# Altium integrated library Analog Devices Interface and Isolation Level Translators.IntLib: 67 symbols (part 3 of 3)
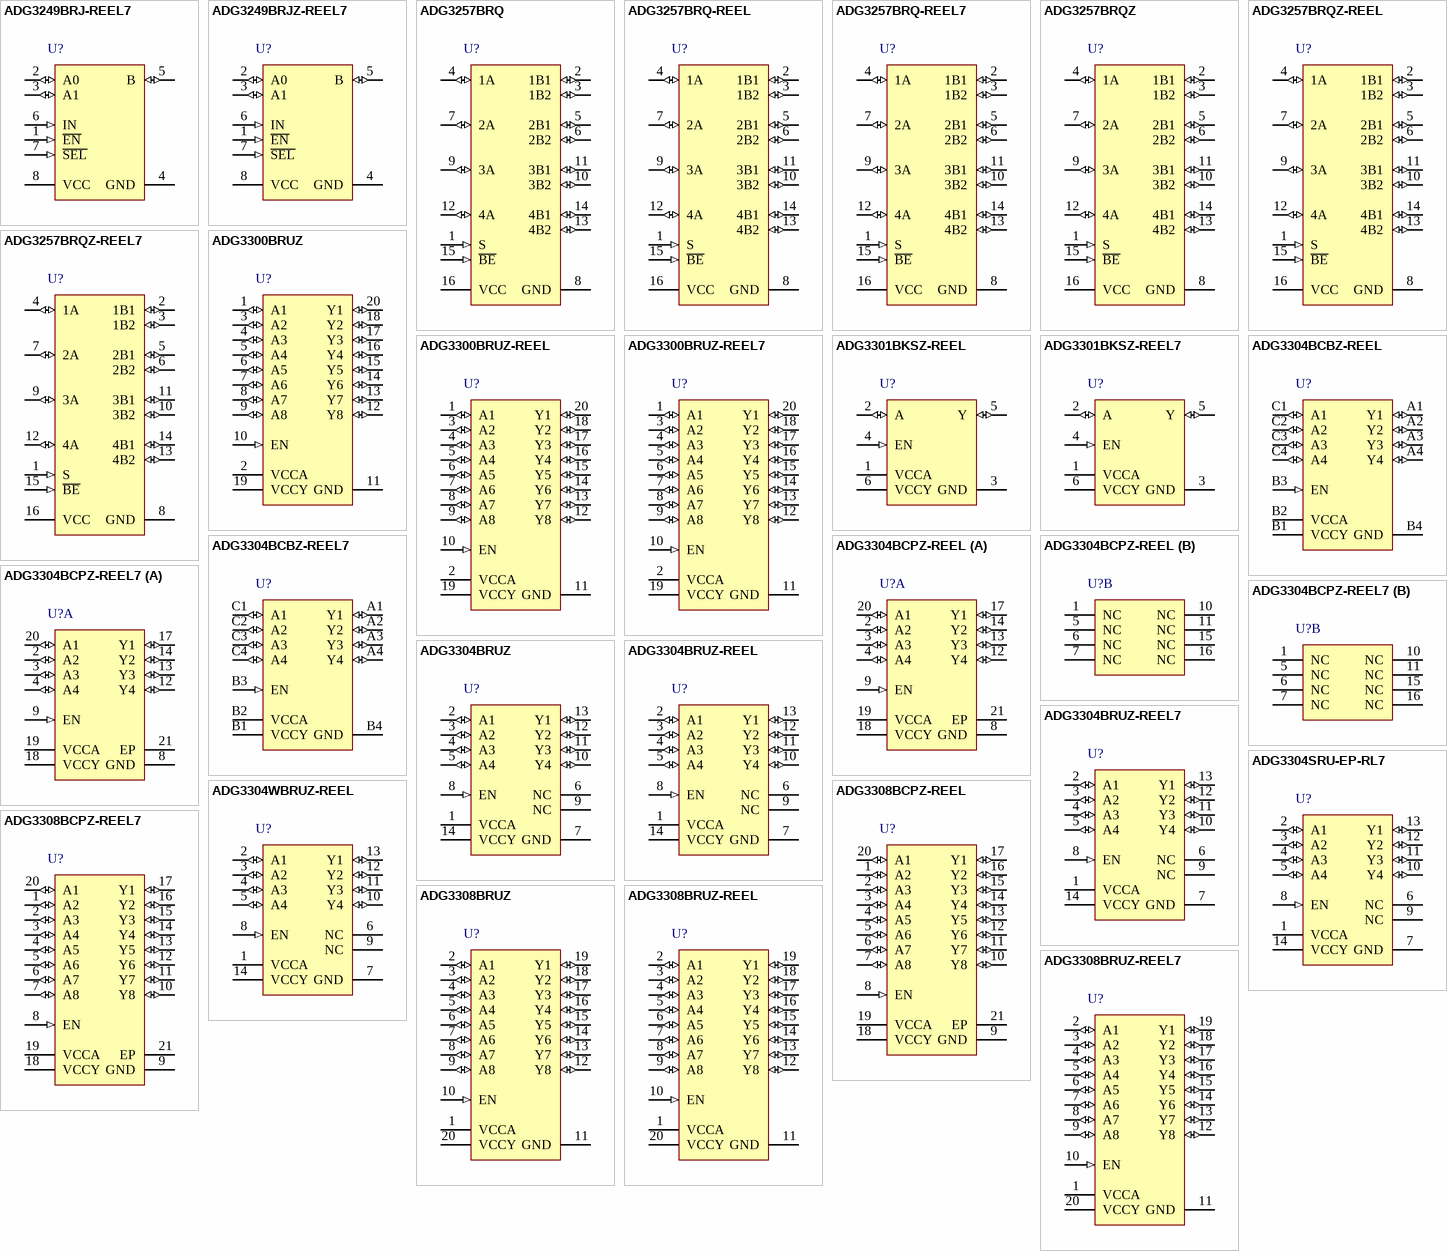
[diagram p3: symbols ADG3249BRJ-REEL7 to ADG3308BRUZ-REEL7]

## ADG3301BKSZ-REEL7
designator U?
Low Voltage 1.15 V to 5.5 V, Single-Channel Bidirectional Logic Level Translator, -40 to 85 degC, 6-pin SOT (KS-6), Reel; Manufacturer: Analog Devices; PartNumber: ADG3301BKSZ-REEL7; Bus Enable Time (typ): 1us; DatasheetVersion: Rev. 0; PackageVersion: 072809-A, 07/2009; PackageReference: KS-6; PackageDescription: 6-Pin Thin Shrink Small Outline Transistor Package, Body 2 x 1.25 mm, Pitch 0.65 mm; Supplier 1: Digi-Key; Supplier Part Number 1: ADG3301BKSZ-REEL7TR-ND; Supplier 2: Digi-Key; Supplier Part Number 2: ADG3301BKSZ-REEL7CT-ND; Supplier 3: Digi-Key; Supplier Part Number 3: ADG3301BKSZ-REEL7DKR-ND; Supplier 4: Farnell; Supplier Part Number 4: 2376898; Supplier 5: Mouser; Supplier Part Number 5: 584-ADG3301BKSZ-R7; Mounting Technology: Surface Mount; Code_JEDEC: MO-203-AB; ComponentLink1Description: Manufacturer URL; ComponentLink1URL: http://www.analog.com/en/index.html; ComponentLink2Description: Datasheet; ComponentLink2URL: http://www.analog.com/static/imported-files/data_sheets/ADG3301.pdf; ComponentLink3Description: Package Specification; ComponentLink3URL: http://www.analog.com/static/imported-files/packages/PKG_PDF/SC70(KS)/KS_6.pdf
footprint ADI-KS-6_N (SOT23, 6-Leads, Body 2x1.25mm, Pitch 0.65mm, IPC Medium Density)
footprint ADI-KS-6_L (SOT23, 6-Leads, Body 2x1.25mm, Pitch 0.65mm, IPC High Density)
footprint ADI-KS-6_M (SOT23, 6-Leads, Body 2x1.25mm, Pitch 0.65mm, IPC Low Density)
pins: 1 VCCA (power) "Power Supply Voltage Input for the A I/O Pin (1.15 V =< VCCA =< VCCY)", 2 A (io) "Input/Output A. Referenced to VCCA", 3 GND (power) "Ground (0 V).", 4 EN (in) "Active High Enable Input.", 5 Y (io) "Input/Output Y. Referenced to VCCY", 6 VCCY (power) "Power Supply Voltage Input for the Y I/O Pin (1.65 V =< VCCY =< 5.5V)."

## ADG3304BCBZ-REEL
designator U?
Low Voltage, 1.15 V to 5.5 V, 4-Channel, Bidirectional Logic Level Translator, -40 to 85 degC, 12-pin BGA (CB-12-1), Reel; Manufacturer: Analog Devices; PartNumber: ADG3304BCBZ-REEL; Bus Enable Time (typ): 1us; DatasheetVersion: 09-06-2012-A; PackageVersion: 09-06-2012-A, 09/2012; PackageReference: CB-12-1-ADG3304; PackageDescription: 12-Ball Wafer Level Chip Scale Package, Body 2.01 x 1.61 mm, Pitch 0.5 mm; Supplier 1: Digi-Key; Supplier Part Number 1: ADG3304BCBZ-REEL-ND; Supplier 2: Mouser; Supplier Part Number 2: 584-ADG3304BCBZ-R; Mounting Technology: Surface Mount; ComponentLink1Description: Manufacturer URL; ComponentLink1URL: http://www.analog.com/en/index.html; ComponentLink2Description: Datasheet; ComponentLink2URL: http://www.analog.com/static/imported-files/data_sheets/ADG3304.pdf; ComponentLink3Description: Package Specification; ComponentLink3URL: http://www.analog.com/static/imported-files/data_sheets/ADG3304.pdf
footprint ADI-CB-12-1-ADG3304 (BGA, 12-Balls, Body 2.01x1.61mm, Pitch 0.5mm)
pins: A1 Y1 (io) "Input/Output Y1. Referenced to VCCY.", A2 Y2 (io) "Input/Output Y2. Referenced to VCCY.", A3 Y3 (io) "Input/Output Y3. Referenced to VCCY.", A4 Y4 (io) "Input/Output Y4. Referenced to VCCY.", B1 VCCY (power) "Power Supply Voltage Input for the Y1 to Y4 I/O Pins (1.65 V =< VCC =< 5.5 V).", B2 VCCA (power) "Power Supply Voltage Input for the A1 to A4 I/O Pins (1.15 V =< VCCA =< VCCY).", B3 EN (in) "Active High Enable Input.", B4 GND (power) "Ground.", C1 A1 (io) "Input/Output A1. Referenced to VCCA.", C2 A2 (io) "Input/Output A2. Referenced to VCCA.", C3 A3 (io) "Input/Output A3. Referenced to VCCA.", C4 A4 (io) "Input/Output A4. Referenced to VCCA."

## ADG3304BCBZ-REEL7
designator U?
Low Voltage, 1.15 V to 5.5 V, 4-Channel, Bidirectional Logic Level Translator, -40 to 85 degC, 12-pin BGA (CB-12-1), Reel; Manufacturer: Analog Devices; PartNumber: ADG3304BCBZ-REEL7; Bus Enable Time (typ): 1us; DatasheetVersion: 09-06-2012-A; PackageVersion: 09-06-2012-A, 09/2012; PackageReference: CB-12-1-ADG3304; PackageDescription: 12-Ball Wafer Level Chip Scale Package, Body 2.01 x 1.61 mm, Pitch 0.5 mm; Supplier 1: Digi-Key; Supplier Part Number 1: ADG3304BCBZ-REEL7TR-ND; Supplier 2: Digi-Key; Supplier Part Number 2: ADG3304BCBZ-REEL7CT-ND; Supplier 3: Digi-Key; Supplier Part Number 3: ADG3304BCBZ-REEL7DKR-ND; Supplier 4: Newark; Supplier Part Number 4: 12M7788; Supplier 5: Mouser; Supplier Part Number 5: 584-ADG3304BCBZ-R7; Mounting Technology: Surface Mount; ComponentLink1Description: Manufacturer URL; ComponentLink1URL: http://www.analog.com/en/index.html; ComponentLink2Description: Datasheet; ComponentLink2URL: http://www.analog.com/static/imported-files/data_sheets/ADG3304.pdf; ComponentLink3Description: Package Specification; ComponentLink3URL: http://www.analog.com/static/imported-files/data_sheets/ADG3304.pdf
footprint ADI-CB-12-1-ADG3304 (BGA, 12-Balls, Body 2.01x1.61mm, Pitch 0.5mm)
pins: A1 Y1 (io) "Input/Output Y1. Referenced to VCCY.", A2 Y2 (io) "Input/Output Y2. Referenced to VCCY.", A3 Y3 (io) "Input/Output Y3. Referenced to VCCY.", A4 Y4 (io) "Input/Output Y4. Referenced to VCCY.", B1 VCCY (power) "Power Supply Voltage Input for the Y1 to Y4 I/O Pins (1.65 V =< VCC =< 5.5 V).", B2 VCCA (power) "Power Supply Voltage Input for the A1 to A4 I/O Pins (1.15 V =< VCCA =< VCCY).", B3 EN (in) "Active High Enable Input.", B4 GND (power) "Ground.", C1 A1 (io) "Input/Output A1. Referenced to VCCA.", C2 A2 (io) "Input/Output A2. Referenced to VCCA.", C3 A3 (io) "Input/Output A3. Referenced to VCCA.", C4 A4 (io) "Input/Output A4. Referenced to VCCA."

## ADG3304BCPZ-REEL
designator U?
Low Voltage, 1.15 V to 5.5 V, 4-Channel, Bidirectional Logic Level Translator, -40 to 85 degC, 20-pin QFN (CP-20-1), Reel; Manufacturer: Analog Devices; PartNumber: ADG3304BCPZ-REEL; Bus Enable Time (typ): 1us; DatasheetVersion: 09-06-2012-A; PackageVersion: 012508-B, 01/2008; PackageReference: CP-20-1; PackageDescription: 20-Pin Lead Frame Chip Scale Package, Body 4 x 4 mm, Pitch 0.5 mm; Supplier 1: Mouser; Supplier Part Number 1: N/A; Mounting Technology: Surface Mount; Code_JEDEC: MO-220-VGGD-1; ComponentLink1Description: Manufacturer URL; ComponentLink1URL: http://www.analog.com/en/index.html; ComponentLink2Description: Datasheet; ComponentLink2URL: http://www.analog.com/static/imported-files/data_sheets/ADG3304.pdf; ComponentLink3Description: Package Specification; ComponentLink3URL: http://www.analog.com/static/imported-files/packages/PKG_PDF/LFCSP(CP)/CP_20_1.pdf
footprint ADI-CP-20-1_N (QFN, 20-Leads, Body 4x4mm, Pitch 0.5mm, Thermal Pad 2.1x2.1mm, IPC Medium Density)
footprint ADI-CP-20-1_L (QFN, 20-Leads, Body 4x4mm, Pitch 0.5mm, Thermal Pad 2.1x2.1mm, IPC High Density)
footprint ADI-CP-20-1_M (QFN, 20-Leads, Body 4x4mm, Pitch 0.5mm, Thermal Pad 2.1x2.1mm, IPC Low Density)
part A pins: 2 A2 (io) "Input/Output A2. Referenced to VCCA.", 3 A3 (io) "Input/Output A3. Referenced to VCCA.", 4 A4 (io) "Input/Output A4. Referenced to VCCA.", 8 GND (power) "Ground.", 9 EN (in) "Active High Enable Input.", 12 Y4 (io) "Input/Output Y4. Referenced to VCCY.", 13 Y3 (io) "Input/Output Y3. Referenced to VCCY.", 14 Y2 (io) "Input/Output Y2. Referenced to VCCY.", 17 Y1 (io) "Input/Output Y1. Referenced to VCCY.", 18 VCCY (power) "Power Supply Voltage Input for the Y1 to Y4 I/O Pins (1.65 V =< VCC =< 5.5 V).", 19 VCCA (power) "Power Supply Voltage Input for the A1 to A4 I/O Pins (1.15 V =< VCCA =< VCCY).", 20 A1 (io) "Input/Output A1. Referenced to VCCA.", 21 EP (power) "Exposed Pad"
part B pins: 1 NC "No Connect.", 5 NC "No Connect.", 6 NC "No Connect.", 7 NC "No Connect.", 10 NC "No Connect.", 11 NC "No Connect.", 15 NC "No Connect.", 16 NC "No Connect."

## ADG3304BCPZ-REEL7
designator U?
Low Voltage, 1.15 V to 5.5 V, 4-Channel, Bidirectional Logic Level Translator, -40 to 85 degC, 20-pin QFN (CP-20-1), Reel; Manufacturer: Analog Devices; PartNumber: ADG3304BCPZ-REEL7; Bus Enable Time (typ): 1us; DatasheetVersion: 09-06-2012-A; PackageVersion: 012508-B, 01/2008; PackageReference: CP-20-1; PackageDescription: 20-Pin Lead Frame Chip Scale Package, Body 4 x 4 mm, Pitch 0.5 mm; Supplier 1: Mouser; Supplier Part Number 1: N/A; Mounting Technology: Surface Mount; Code_JEDEC: MO-220-VGGD-1; ComponentLink1Description: Manufacturer URL; ComponentLink1URL: http://www.analog.com/en/index.html; ComponentLink2Description: Datasheet; ComponentLink2URL: http://www.analog.com/static/imported-files/data_sheets/ADG3304.pdf; ComponentLink3Description: Package Specification; ComponentLink3URL: http://www.analog.com/static/imported-files/packages/PKG_PDF/LFCSP(CP)/CP_20_1.pdf
footprint ADI-CP-20-1_N (QFN, 20-Leads, Body 4x4mm, Pitch 0.5mm, Thermal Pad 2.1x2.1mm, IPC Medium Density)
footprint ADI-CP-20-1_L (QFN, 20-Leads, Body 4x4mm, Pitch 0.5mm, Thermal Pad 2.1x2.1mm, IPC High Density)
footprint ADI-CP-20-1_M (QFN, 20-Leads, Body 4x4mm, Pitch 0.5mm, Thermal Pad 2.1x2.1mm, IPC Low Density)
part A pins: 2 A2 (io) "Input/Output A2. Referenced to VCCA.", 3 A3 (io) "Input/Output A3. Referenced to VCCA.", 4 A4 (io) "Input/Output A4. Referenced to VCCA.", 8 GND (power) "Ground.", 9 EN (in) "Active High Enable Input.", 12 Y4 (io) "Input/Output Y4. Referenced to VCCY.", 13 Y3 (io) "Input/Output Y3. Referenced to VCCY.", 14 Y2 (io) "Input/Output Y2. Referenced to VCCY.", 17 Y1 (io) "Input/Output Y1. Referenced to VCCY.", 18 VCCY (power) "Power Supply Voltage Input for the Y1 to Y4 I/O Pins (1.65 V =< VCC =< 5.5 V).", 19 VCCA (power) "Power Supply Voltage Input for the A1 to A4 I/O Pins (1.15 V =< VCCA =< VCCY).", 20 A1 (io) "Input/Output A1. Referenced to VCCA.", 21 EP (power) "Exposed Pad"
part B pins: 1 NC "No Connect.", 5 NC "No Connect.", 6 NC "No Connect.", 7 NC "No Connect.", 10 NC "No Connect.", 11 NC "No Connect.", 15 NC "No Connect.", 16 NC "No Connect."

## ADG3304BRUZ
designator U?
Low Voltage, 1.15 V to 5.5 V, 4-Channel, Bidirectional Logic Level Translator, -40 to 85 degC, 14-pin SOP (RU-14), Tube; Manufacturer: Analog Devices; PartNumber: ADG3304BRUZ; Bus Enable Time (typ): 1us; DatasheetVersion: 09-06-2012-A; PackageVersion: Aug-02; PackageReference: RU-14; PackageDescription: 14-Pin Thin Shrink Small Outline Package, Body 5 x 4.4 mm, Pitch 0.65 mm; Supplier 1: Digi-Key; Supplier Part Number 1: ADG3304BRUZ-ND; Supplier 2: Farnell; Supplier Part Number 2: 1078228; Supplier 3: Newark; Supplier Part Number 3: 19M0672; Supplier 4: Mouser; Supplier Part Number 4: 584-ADG3304BRUZ; Mounting Technology: Surface Mount; Code_JEDEC: MO-153AB-1; ComponentLink1Description: Manufacturer URL; ComponentLink1URL: http://www.analog.com/en/index.html; ComponentLink2Description: Datasheet; ComponentLink2URL: http://www.analog.com/static/imported-files/data_sheets/ADG3304.pdf; ComponentLink3Description: Package Specification; ComponentLink3URL: http://www.analog.com/static/imported-files/packages/36057385283879153717235186773RU14.pdf
footprint ADI-RU-14_N (SOP, 14-Leads, Body 5x4.4mm, Pitch 0.65mm, IPC Medium Density)
footprint ADI-RU-14_L (SOP, 14-Leads, Body 5x4.4mm, Pitch 0.65mm, IPC High Density)
footprint ADI-RU-14_M (SOP, 14-Leads, Body 5x4.4mm, Pitch 0.65mm, IPC Low Density)
pins: 1 VCCA (power) "Power Supply Voltage Input for the A1 to A4 I/O Pins (1.15 V =< VCCA =< VCCY).", 2 A1 (io) "Input/Output A1. Referenced to VCCA.", 3 A2 (io) "Input/Output A2. Referenced to VCCA", 4 A3 (io) "Input/Output A3. Referenced to VCCA", 5 A4 (io) "Input/Output A4. Referenced to VCCA", 6 NC "No Connect.", 7 GND (power) "Ground", 8 EN (in) "Active High Enable Input", 9 NC "No Connect.", 10 Y4 (io) "Input/Output Y4. Referenced to VCCY", 11 Y3 (io) "Input/Output Y3. Referenced to VCCY", 12 Y2 (io) "Input/Output Y2. Referenced to VCCY", 13 Y1 (io) "Input/Output Y1. Referenced to VCCY", 14 VCCY (power) "Power Supply Voltage Input for the Y1 to Y4 I/O Pins (1.65 V =< VCC =< 5.5 V)."

## ADG3304BRUZ-REEL
designator U?
Low Voltage, 1.15 V to 5.5 V, 4-Channel, Bidirectional Logic Level Translator, -40 to 85 degC, 14-pin SOP (RU-14), Reel; Manufacturer: Analog Devices; PartNumber: ADG3304BRUZ-REEL; Bus Enable Time (typ): 1us; DatasheetVersion: 09-06-2012-A; PackageVersion: Aug-02; PackageReference: RU-14; PackageDescription: 14-Pin Thin Shrink Small Outline Package, Body 5 x 4.4 mm, Pitch 0.65 mm; Supplier 1: Digi-Key; Supplier Part Number 1: ADG3304BRUZ-REEL-ND; Supplier 2: Newark; Supplier Part Number 2: 59K1216; Supplier 3: Mouser; Supplier Part Number 3: 584-ADG3304BRUZ-R; Mounting Technology: Surface Mount; Code_JEDEC: MO-153AB-1; ComponentLink1Description: Manufacturer URL; ComponentLink1URL: http://www.analog.com/en/index.html; ComponentLink2Description: Datasheet; ComponentLink2URL: http://www.analog.com/static/imported-files/data_sheets/ADG3304.pdf; ComponentLink3Description: Package Specification; ComponentLink3URL: http://www.analog.com/static/imported-files/packages/36057385283879153717235186773RU14.pdf
footprint ADI-RU-14_N (SOP, 14-Leads, Body 5x4.4mm, Pitch 0.65mm, IPC Medium Density)
footprint ADI-RU-14_L (SOP, 14-Leads, Body 5x4.4mm, Pitch 0.65mm, IPC High Density)
footprint ADI-RU-14_M (SOP, 14-Leads, Body 5x4.4mm, Pitch 0.65mm, IPC Low Density)
pins: 1 VCCA (power) "Power Supply Voltage Input for the A1 to A4 I/O Pins (1.15 V =< VCCA =< VCCY).", 2 A1 (io) "Input/Output A1. Referenced to VCCA.", 3 A2 (io) "Input/Output A2. Referenced to VCCA", 4 A3 (io) "Input/Output A3. Referenced to VCCA", 5 A4 (io) "Input/Output A4. Referenced to VCCA", 6 NC "No Connect.", 7 GND (power) "Ground", 8 EN (in) "Active High Enable Input", 9 NC "No Connect.", 10 Y4 (io) "Input/Output Y4. Referenced to VCCY", 11 Y3 (io) "Input/Output Y3. Referenced to VCCY", 12 Y2 (io) "Input/Output Y2. Referenced to VCCY", 13 Y1 (io) "Input/Output Y1. Referenced to VCCY", 14 VCCY (power) "Power Supply Voltage Input for the Y1 to Y4 I/O Pins (1.65 V =< VCC =< 5.5 V)."

## ADG3304BRUZ-REEL7
designator U?
Low Voltage, 1.15 V to 5.5 V, 4-Channel, Bidirectional Logic Level Translator, -40 to 85 degC, 14-pin SOP (RU-14), Reel; Manufacturer: Analog Devices; PartNumber: ADG3304BRUZ-REEL7; Bus Enable Time (typ): 1us; DatasheetVersion: 09-06-2012-A; PackageVersion: Aug-02; PackageReference: RU-14; PackageDescription: 14-Pin Thin Shrink Small Outline Package, Body 5 x 4.4 mm, Pitch 0.65 mm; Supplier 1: Digi-Key; Supplier Part Number 1: ADG3304BRUZ-REEL7TR-ND; Supplier 2: Digi-Key; Supplier Part Number 2: ADG3304BRUZ-REEL7CT-ND; Supplier 3: Digi-Key; Supplier Part Number 3: ADG3304BRUZ-REEL7DKR-ND; Supplier 4: Newark; Supplier Part Number 4: 74R5846; Supplier 5: Mouser; Supplier Part Number 5: 584-ADG3304BRUZ-R7; Mounting Technology: Surface Mount; Code_JEDEC: MO-153AB-1; ComponentLink1Description: Manufacturer URL; ComponentLink1URL: http://www.analog.com/en/index.html; ComponentLink2Description: Datasheet; ComponentLink2URL: http://www.analog.com/static/imported-files/data_sheets/ADG3304.pdf; ComponentLink3Description: Package Specification; ComponentLink3URL: http://www.analog.com/static/imported-files/packages/36057385283879153717235186773RU14.pdf
footprint ADI-RU-14_N (SOP, 14-Leads, Body 5x4.4mm, Pitch 0.65mm, IPC Medium Density)
footprint ADI-RU-14_L (SOP, 14-Leads, Body 5x4.4mm, Pitch 0.65mm, IPC High Density)
footprint ADI-RU-14_M (SOP, 14-Leads, Body 5x4.4mm, Pitch 0.65mm, IPC Low Density)
pins: 1 VCCA (power) "Power Supply Voltage Input for the A1 to A4 I/O Pins (1.15 V =< VCCA =< VCCY).", 2 A1 (io) "Input/Output A1. Referenced to VCCA.", 3 A2 (io) "Input/Output A2. Referenced to VCCA", 4 A3 (io) "Input/Output A3. Referenced to VCCA", 5 A4 (io) "Input/Output A4. Referenced to VCCA", 6 NC "No Connect.", 7 GND (power) "Ground", 8 EN (in) "Active High Enable Input", 9 NC "No Connect.", 10 Y4 (io) "Input/Output Y4. Referenced to VCCY", 11 Y3 (io) "Input/Output Y3. Referenced to VCCY", 12 Y2 (io) "Input/Output Y2. Referenced to VCCY", 13 Y1 (io) "Input/Output Y1. Referenced to VCCY", 14 VCCY (power) "Power Supply Voltage Input for the Y1 to Y4 I/O Pins (1.65 V =< VCC =< 5.5 V)."

## ADG3304SRU-EP-RL7
designator U?
Low Voltage, 1.15 V to 5.5 V, 4-Channel, Bidirectional Logic Level Translator, -40 to 85 degC, 14-pin SOP (RU-14), Reel; Manufacturer: Analog Devices; PartNumber: ADG3304SRU-EP-RL7; Bus Enable Time (typ): 1us; DatasheetVersion: 09-06-2012-A; PackageVersion: Aug-02; PackageReference: RU-14; PackageDescription: 14-Pin Thin Shrink Small Outline Package, Body 5 x 4.4 mm, Pitch 0.65 mm; Supplier 1: Digi-Key; Supplier Part Number 1: ADG3304SRU-EP-RL7TR-ND; Supplier 2: Digi-Key; Supplier Part Number 2: ADG3304SRU-EP-RL7CT-ND; Supplier 3: Digi-Key; Supplier Part Number 3: ADG3304SRU-EP-RL7DKR-ND; Supplier 4: Newark; Supplier Part Number 4: 74R5847; Supplier 5: Mouser; Supplier Part Number 5: 584-ADG3304SRU-EP-R7; Mounting Technology: Surface Mount; Code_JEDEC: MO-153AB-1; ComponentLink1Description: Manufacturer URL; ComponentLink1URL: http://www.analog.com/en/index.html; ComponentLink2Description: Datasheet; ComponentLink2URL: http://www.analog.com/static/imported-files/data_sheets/ADG3304.pdf; ComponentLink3Description: Package Specification; ComponentLink3URL: http://www.analog.com/static/imported-files/packages/36057385283879153717235186773RU14.pdf
footprint ADI-RU-14_N (SOP, 14-Leads, Body 5x4.4mm, Pitch 0.65mm, IPC Medium Density)
footprint ADI-RU-14_L (SOP, 14-Leads, Body 5x4.4mm, Pitch 0.65mm, IPC High Density)
footprint ADI-RU-14_M (SOP, 14-Leads, Body 5x4.4mm, Pitch 0.65mm, IPC Low Density)
pins: 1 VCCA (power) "Power Supply Voltage Input for the A1 to A4 I/O Pins (1.15 V =< VCCA =< VCCY).", 2 A1 (io) "Input/Output A1. Referenced to VCCA.", 3 A2 (io) "Input/Output A2. Referenced to VCCA", 4 A3 (io) "Input/Output A3. Referenced to VCCA", 5 A4 (io) "Input/Output A4. Referenced to VCCA", 6 NC "No Connect.", 7 GND (power) "Ground", 8 EN (in) "Active High Enable Input", 9 NC "No Connect.", 10 Y4 (io) "Input/Output Y4. Referenced to VCCY", 11 Y3 (io) "Input/Output Y3. Referenced to VCCY", 12 Y2 (io) "Input/Output Y2. Referenced to VCCY", 13 Y1 (io) "Input/Output Y1. Referenced to VCCY", 14 VCCY (power) "Power Supply Voltage Input for the Y1 to Y4 I/O Pins (1.65 V =< VCC =< 5.5 V)."

## ADG3304WBRUZ-REEL
designator U?
Low Voltage, 1.15 V to 5.5 V, 4-Channel, Bidirectional Logic Level Translator, -40 to 85 degC, 14-pin SOP (RU-14), Reel; Manufacturer: Analog Devices; PartNumber: ADG3304WBRUZ-REEL; Bus Enable Time (typ): 1us; DatasheetVersion: 09-06-2012-A; PackageVersion: Aug-02; PackageReference: RU-14; PackageDescription: 14-Pin Thin Shrink Small Outline Package, Body 5 x 4.4 mm, Pitch 0.65 mm; Supplier 1: Mouser; Supplier Part Number 1: N/A; Mounting Technology: Surface Mount; Code_JEDEC: MO-153AB-1; ComponentLink1Description: Manufacturer URL; ComponentLink1URL: http://www.analog.com/en/index.html; ComponentLink2Description: Datasheet; ComponentLink2URL: http://www.analog.com/static/imported-files/data_sheets/ADG3304.pdf; ComponentLink3Description: Package Specification; ComponentLink3URL: http://www.analog.com/static/imported-files/packages/36057385283879153717235186773RU14.pdf
footprint ADI-RU-14_N (SOP, 14-Leads, Body 5x4.4mm, Pitch 0.65mm, IPC Medium Density)
footprint ADI-RU-14_L (SOP, 14-Leads, Body 5x4.4mm, Pitch 0.65mm, IPC High Density)
footprint ADI-RU-14_M (SOP, 14-Leads, Body 5x4.4mm, Pitch 0.65mm, IPC Low Density)
pins: 1 VCCA (power) "Power Supply Voltage Input for the A1 to A4 I/O Pins (1.15 V =< VCCA =< VCCY).", 2 A1 (io) "Input/Output A1. Referenced to VCCA.", 3 A2 (io) "Input/Output A2. Referenced to VCCA", 4 A3 (io) "Input/Output A3. Referenced to VCCA", 5 A4 (io) "Input/Output A4. Referenced to VCCA", 6 NC "No Connect.", 7 GND (power) "Ground", 8 EN (in) "Active High Enable Input", 9 NC "No Connect.", 10 Y4 (io) "Input/Output Y4. Referenced to VCCY", 11 Y3 (io) "Input/Output Y3. Referenced to VCCY", 12 Y2 (io) "Input/Output Y2. Referenced to VCCY", 13 Y1 (io) "Input/Output Y1. Referenced to VCCY", 14 VCCY (power) "Power Supply Voltage Input for the Y1 to Y4 I/O Pins (1.65 V =< VCC =< 5.5 V)."

## ADG3308BCPZ-REEL
designator U?
Low Voltage, 1.15 V to 5.5 V, 8-Channel Bidirectional Logic Level Translator, -40 to 85 degC, 20-pin QFN (CP-20-1), Reel; Manufacturer: Analog Devices; PartNumber: ADG3308BCPZ-REEL; Bus Enable Time (typ): 1us; DatasheetVersion: Rev. C; PackageVersion: 012508-B, 01/2008; PackageReference: CP-20-1; PackageDescription: 20-Pin Lead Frame Chip Scale Package, Body 4 x 4 mm, Pitch 0.5 mm; Supplier 1: Digi-Key; Supplier Part Number 1: ADG3308BCPZ-REEL-ND; Supplier 2: Newark; Supplier Part Number 2: 59K1217; Supplier 3: Mouser; Supplier Part Number 3: 584-ADG3308BCPZ-R; Mounting Technology: Surface Mount; Code_JEDEC: MO-220-VGGD-1; ComponentLink1Description: Manufacturer URL; ComponentLink1URL: http://www.analog.com/en/index.html; ComponentLink2Description: Datasheet; ComponentLink2URL: http://www.analog.com/static/imported-files/data_sheets/ADG3308_3308-1.pdf; ComponentLink3Description: Package Specification; ComponentLink3URL: http://www.analog.com/static/imported-files/packages/PKG_PDF/LFCSP(CP)/CP_20_1.pdf
footprint ADI-CP-20-1_N (QFN, 20-Leads, Body 4x4mm, Pitch 0.5mm, Thermal Pad 2.1x2.1mm, IPC Medium Density)
footprint ADI-CP-20-1_L (QFN, 20-Leads, Body 4x4mm, Pitch 0.5mm, Thermal Pad 2.1x2.1mm, IPC High Density)
footprint ADI-CP-20-1_M (QFN, 20-Leads, Body 4x4mm, Pitch 0.5mm, Thermal Pad 2.1x2.1mm, IPC Low Density)
pins: 1 A2 (io) "Input/Output A2. Referenced to VCCA.", 2 A3 (io) "Input/Output A3. Referenced to VCCA.", 3 A4 (io) "Input/Output A4. Referenced to VCCA.", 4 A5 (io) "Input/Output A5. Referenced to VCCA.", 5 A6 (io) "Input/Output A6. Referenced to VCCA.", 6 A7 (io) "Input/Output A7. Referenced to VCCA.", 7 A8 (io) "Input/Output A8. Referenced to VCCA.", 8 EN (in) "Active High Enable Input.", 9 GND (power) "Ground.", 10 Y8 (io) "Input/Output Y8. Referenced to VCCY.", 11 Y7 (io) "Input/Output Y7. Referenced to VCCY.", 12 Y6 (io) "Input/Output Y6. Referenced to VCCY.", 13 Y5 (io) "Input/Output Y5. Referenced to VCCY.", 14 Y4 (io) "Input/Output Y4. Referenced to VCCY.", 15 Y3 (io) "Input/Output Y3. Referenced to VCCY.", 16 Y2 (io) "Input/Output Y2. Referenced to VCCY.", 17 Y1 (io) "Input/Output Y1. Referenced to VCCY.", 18 VCCY (power) "Power Supply. Power supply voltage input for the Y1 I/O pin to the Y8 I/O pin (1.65 V =< VCCY =< 5.5 V).", 19 VCCA (power) "Power Supply. Power supply voltage input for the A1 I/O pin to the A8 I/O pin (1.15 V =< VCCA < VCCY).", 20 A1 (io) "Input/Output A1. Referenced to VCCA.", 21 EP (power) "Exposed pad."

## ADG3308BCPZ-REEL7
designator U?
Low Voltage, 1.15 V to 5.5 V, 8-Channel Bidirectional Logic Level Translator, -40 to 85 degC, 20-pin QFN (CP-20-1), Reel; Manufacturer: Analog Devices; PartNumber: ADG3308BCPZ-REEL7; Bus Enable Time (typ): 1us; DatasheetVersion: Rev. C; PackageVersion: 012508-B, 01/2008; PackageReference: CP-20-1; PackageDescription: 20-Pin Lead Frame Chip Scale Package, Body 4 x 4 mm, Pitch 0.5 mm; Supplier 1: Digi-Key; Supplier Part Number 1: ADG3308BCPZ-REEL7TR-ND; Supplier 2: Digi-Key; Supplier Part Number 2: ADG3308BCPZ-REEL7CT-ND; Supplier 3: Digi-Key; Supplier Part Number 3: ADG3308BCPZ-REEL7DKR-ND; Supplier 4: Farnell; Supplier Part Number 4: 2312835; Supplier 5: Newark; Supplier Part Number 5: 67W2635; Supplier 6: Newark; Supplier Part Number 6: 59K1218; Supplier 7: Mouser; Supplier Part Number 7: 584-ADG3308BCPZ-R7; Mounting Technology: Surface Mount; Code_JEDEC: MO-220-VGGD-1; ComponentLink1Description: Manufacturer URL; ComponentLink1URL: http://www.analog.com/en/index.html; ComponentLink2Description: Datasheet; ComponentLink2URL: http://www.analog.com/static/imported-files/data_sheets/ADG3308_3308-1.pdf; ComponentLink3Description: Package Specification; ComponentLink3URL: http://www.analog.com/static/imported-files/packages/PKG_PDF/LFCSP(CP)/CP_20_1.pdf
footprint ADI-CP-20-1_N (QFN, 20-Leads, Body 4x4mm, Pitch 0.5mm, Thermal Pad 2.1x2.1mm, IPC Medium Density)
footprint ADI-CP-20-1_L (QFN, 20-Leads, Body 4x4mm, Pitch 0.5mm, Thermal Pad 2.1x2.1mm, IPC High Density)
footprint ADI-CP-20-1_M (QFN, 20-Leads, Body 4x4mm, Pitch 0.5mm, Thermal Pad 2.1x2.1mm, IPC Low Density)
pins: 1 A2 (io) "Input/Output A2. Referenced to VCCA.", 2 A3 (io) "Input/Output A3. Referenced to VCCA.", 3 A4 (io) "Input/Output A4. Referenced to VCCA.", 4 A5 (io) "Input/Output A5. Referenced to VCCA.", 5 A6 (io) "Input/Output A6. Referenced to VCCA.", 6 A7 (io) "Input/Output A7. Referenced to VCCA.", 7 A8 (io) "Input/Output A8. Referenced to VCCA.", 8 EN (in) "Active High Enable Input.", 9 GND (power) "Ground.", 10 Y8 (io) "Input/Output Y8. Referenced to VCCY.", 11 Y7 (io) "Input/Output Y7. Referenced to VCCY.", 12 Y6 (io) "Input/Output Y6. Referenced to VCCY.", 13 Y5 (io) "Input/Output Y5. Referenced to VCCY.", 14 Y4 (io) "Input/Output Y4. Referenced to VCCY.", 15 Y3 (io) "Input/Output Y3. Referenced to VCCY.", 16 Y2 (io) "Input/Output Y2. Referenced to VCCY.", 17 Y1 (io) "Input/Output Y1. Referenced to VCCY.", 18 VCCY (power) "Power Supply. Power supply voltage input for the Y1 I/O pin to the Y8 I/O pin (1.65 V =< VCCY =< 5.5 V).", 19 VCCA (power) "Power Supply. Power supply voltage input for the A1 I/O pin to the A8 I/O pin (1.15 V =< VCCA < VCCY).", 20 A1 (io) "Input/Output A1. Referenced to VCCA.", 21 EP (power) "Exposed pad."

## ADG3308BRUZ
designator U?
Low Voltage, 1.15 V to 5.5 V, 8-Channel Bidirectional Logic Level Translator, -40 to 85 degC, 20-pin SOP (RU-20), Tube; Manufacturer: Analog Devices; PartNumber: ADG3308BRUZ; Bus Enable Time (typ): 1us; DatasheetVersion: Rev. C; PackageVersion: Jan-03; PackageReference: RU-20; PackageDescription: 20-Pin Thin Shrink Small Outline Package, Body 6.5 x 4.4 mm, Pitch 0.65 mm; Supplier 1: Digi-Key; Supplier Part Number 1: ADG3308BRUZ-ND; Supplier 2: Farnell; Supplier Part Number 2: 9453083; Supplier 3: Newark; Supplier Part Number 3: 19M0673; Supplier 4: Mouser; Supplier Part Number 4: 584-ADG3308BRUZ; Mounting Technology: Surface Mount; Code_JEDEC: MO-153AC; ComponentLink1Description: Manufacturer URL; ComponentLink1URL: http://www.analog.com/en/index.html; ComponentLink2Description: Datasheet; ComponentLink2URL: http://www.analog.com/static/imported-files/data_sheets/ADG3308_3308-1.pdf; ComponentLink3Description: Package Specification; ComponentLink3URL: http://www.analog.com/static/imported-files/packages/364515793657813558433715854054607941441RU20.pdf
footprint ADI-RU-20_N (SOP, 20-Leads, Body 6.5x4.4mm, Pitch 0.65mm, IPC Medium Density)
footprint ADI-RU-20_L (SOP, 20-Leads, Body 6.5x4.4mm, Pitch 0.65mm, IPC High Density)
footprint ADI-RU-20_M (SOP, 20-Leads, Body 6.5x4.4mm, Pitch 0.65mm, IPC Low Density)
pins: 1 VCCA (power) "Power Supply. Power supply voltage input for the A1 I/O pin to the A8 I/O pin(1.15 V =< VCCA < VCCY).", 2 A1 (io) "Input/Output A1. Referenced to VCCA.", 3 A2 (io) "Input/Output A2. Referenced to VCCA.", 4 A3 (io) "Input/Output A3. Referenced to VCCA.", 5 A4 (io) "Input/Output A4. Referenced to VCCA.", 6 A5 (io) "Input/Output A5. Referenced to VCCA.", 7 A6 (io) "Input/Output A6. Referenced to VCCA.", 8 A7 (io) "Input/Output A7. Referenced to VCCA.", 9 A8 (io) "Input/Output A8. Referenced to VCCA.", 10 EN (in) "Active High Enable Input.", 11 GND (power) "Ground.", 12 Y8 (io) "Input/Output Y8. Referenced to VCCY.", 13 Y7 (io) "Input/Output Y7. Referenced to VCCY.", 14 Y6 (io) "Input/Output Y6. Referenced to VCCY.", 15 Y5 (io) "Input/Output Y5. Referenced to VCCY.", 16 Y4 (io) "Input/Output Y4. Referenced to VCCY.", 17 Y3 (io) "Input/Output Y3. Referenced to VCCY.", 18 Y2 (io) "Input/Output Y2. Referenced to VCCY.", 19 Y1 (io) "Input/Output Y1. Referenced to VCCY.", 20 VCCY (power) "Power Supply. Power supply voltage input for the Y1 I/O pin to the Y8 I/O pin(1.65 V =< VCCY =< 5.5 V)."

## ADG3308BRUZ-REEL
designator U?
Low Voltage, 1.15 V to 5.5 V, 8-Channel Bidirectional Logic Level Translator, -40 to 85 degC, 20-pin SOP (RU-20), Reel; Manufacturer: Analog Devices; PartNumber: ADG3308BRUZ-REEL; Bus Enable Time (typ): 1us; DatasheetVersion: Rev. C; PackageVersion: Jan-03; PackageReference: RU-20; PackageDescription: 20-Pin Thin Shrink Small Outline Package, Body 6.5 x 4.4 mm, Pitch 0.65 mm; Supplier 1: Digi-Key; Supplier Part Number 1: ADG3308BRUZ-REEL-ND; Supplier 2: Mouser; Supplier Part Number 2: 584-ADG3308BRUZ-R; Mounting Technology: Surface Mount; Code_JEDEC: MO-153AC; ComponentLink1Description: Manufacturer URL; ComponentLink1URL: http://www.analog.com/en/index.html; ComponentLink2Description: Datasheet; ComponentLink2URL: http://www.analog.com/static/imported-files/data_sheets/ADG3308_3308-1.pdf; ComponentLink3Description: Package Specification; ComponentLink3URL: http://www.analog.com/static/imported-files/packages/364515793657813558433715854054607941441RU20.pdf
footprint ADI-RU-20_N (SOP, 20-Leads, Body 6.5x4.4mm, Pitch 0.65mm, IPC Medium Density)
footprint ADI-RU-20_L (SOP, 20-Leads, Body 6.5x4.4mm, Pitch 0.65mm, IPC High Density)
footprint ADI-RU-20_M (SOP, 20-Leads, Body 6.5x4.4mm, Pitch 0.65mm, IPC Low Density)
pins: 1 VCCA (power) "Power Supply. Power supply voltage input for the A1 I/O pin to the A8 I/O pin(1.15 V =< VCCA < VCCY).", 2 A1 (io) "Input/Output A1. Referenced to VCCA.", 3 A2 (io) "Input/Output A2. Referenced to VCCA.", 4 A3 (io) "Input/Output A3. Referenced to VCCA.", 5 A4 (io) "Input/Output A4. Referenced to VCCA.", 6 A5 (io) "Input/Output A5. Referenced to VCCA.", 7 A6 (io) "Input/Output A6. Referenced to VCCA.", 8 A7 (io) "Input/Output A7. Referenced to VCCA.", 9 A8 (io) "Input/Output A8. Referenced to VCCA.", 10 EN (in) "Active High Enable Input.", 11 GND (power) "Ground.", 12 Y8 (io) "Input/Output Y8. Referenced to VCCY.", 13 Y7 (io) "Input/Output Y7. Referenced to VCCY.", 14 Y6 (io) "Input/Output Y6. Referenced to VCCY.", 15 Y5 (io) "Input/Output Y5. Referenced to VCCY.", 16 Y4 (io) "Input/Output Y4. Referenced to VCCY.", 17 Y3 (io) "Input/Output Y3. Referenced to VCCY.", 18 Y2 (io) "Input/Output Y2. Referenced to VCCY.", 19 Y1 (io) "Input/Output Y1. Referenced to VCCY.", 20 VCCY (power) "Power Supply. Power supply voltage input for the Y1 I/O pin to the Y8 I/O pin(1.65 V =< VCCY =< 5.5 V)."

## ADG3308BRUZ-REEL7
designator U?
Low Voltage, 1.15 V to 5.5 V, 8-Channel Bidirectional Logic Level Translator, -40 to 85 degC, 20-pin SOP (RU-20), Reel; Manufacturer: Analog Devices; PartNumber: ADG3308BRUZ-REEL7; Bus Enable Time (typ): 1us; DatasheetVersion: Rev. C; PackageVersion: Jan-03; PackageReference: RU-20; PackageDescription: 20-Pin Thin Shrink Small Outline Package, Body 6.5 x 4.4 mm, Pitch 0.65 mm; Supplier 1: Digi-Key; Supplier Part Number 1: ADG3308BRUZ-REEL7TR-ND; Supplier 2: Digi-Key; Supplier Part Number 2: ADG3308BRUZ-REEL7CT-ND; Supplier 3: Digi-Key; Supplier Part Number 3: ADG3308BRUZ-REEL7DKR-ND; Supplier 4: Newark; Supplier Part Number 4: 59K1220; Supplier 5: Mouser; Supplier Part Number 5: 584-ADG3308BRUZ-R7; Mounting Technology: Surface Mount; Code_JEDEC: MO-153AC; ComponentLink1Description: Manufacturer URL; ComponentLink1URL: http://www.analog.com/en/index.html; ComponentLink2Description: Datasheet; ComponentLink2URL: http://www.analog.com/static/imported-files/data_sheets/ADG3308_3308-1.pdf; ComponentLink3Description: Package Specification; ComponentLink3URL: http://www.analog.com/static/imported-files/packages/364515793657813558433715854054607941441RU20.pdf
footprint ADI-RU-20_N (SOP, 20-Leads, Body 6.5x4.4mm, Pitch 0.65mm, IPC Medium Density)
footprint ADI-RU-20_L (SOP, 20-Leads, Body 6.5x4.4mm, Pitch 0.65mm, IPC High Density)
footprint ADI-RU-20_M (SOP, 20-Leads, Body 6.5x4.4mm, Pitch 0.65mm, IPC Low Density)
pins: 1 VCCA (power) "Power Supply. Power supply voltage input for the A1 I/O pin to the A8 I/O pin(1.15 V =< VCCA < VCCY).", 2 A1 (io) "Input/Output A1. Referenced to VCCA.", 3 A2 (io) "Input/Output A2. Referenced to VCCA.", 4 A3 (io) "Input/Output A3. Referenced to VCCA.", 5 A4 (io) "Input/Output A4. Referenced to VCCA.", 6 A5 (io) "Input/Output A5. Referenced to VCCA.", 7 A6 (io) "Input/Output A6. Referenced to VCCA.", 8 A7 (io) "Input/Output A7. Referenced to VCCA.", 9 A8 (io) "Input/Output A8. Referenced to VCCA.", 10 EN (in) "Active High Enable Input.", 11 GND (power) "Ground.", 12 Y8 (io) "Input/Output Y8. Referenced to VCCY.", 13 Y7 (io) "Input/Output Y7. Referenced to VCCY.", 14 Y6 (io) "Input/Output Y6. Referenced to VCCY.", 15 Y5 (io) "Input/Output Y5. Referenced to VCCY.", 16 Y4 (io) "Input/Output Y4. Referenced to VCCY.", 17 Y3 (io) "Input/Output Y3. Referenced to VCCY.", 18 Y2 (io) "Input/Output Y2. Referenced to VCCY.", 19 Y1 (io) "Input/Output Y1. Referenced to VCCY.", 20 VCCY (power) "Power Supply. Power supply voltage input for the Y1 I/O pin to the Y8 I/O pin(1.65 V =< VCCY =< 5.5 V)."